# Altium schematic symbol library HHO.SchLib: 1 symbol
Pins are listed as number, name and electrical type; pins without a type are passive.

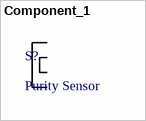
[diagram p0: symbol Component_1]

## Component_1
designator S?, comment Purity Sensor
footprint PCBComponent_1
footprint Purity Sensor 2